# Altium schematic symbol library AUVic_Integrated_Library_Inductors.SchLib: 10 symbols
Pins are listed as number, name and electrical type; pins without a type are passive.

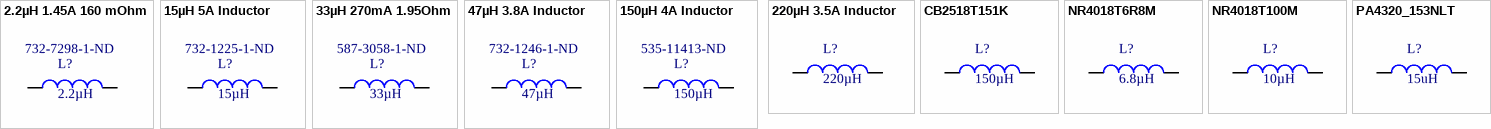
[diagram p0: symbols 2.2µH 1.45A 160 mOhm to PA4320_153NLT]

## 2.2µH 1.45A 160 mOhm
designator L?, comment 2.2µH  Supplier Part Number 1: 732-7298-1-ND
2.2µH 1.45A 160 mOhm; Value: 2.2µH; Created By: Robert Keen; Created On: 2018-07-11; Supplier 1: Digi-Key; ComponentLink1Description: Digikey; ComponentLink1URL: https://www.digikey.ca/product-detail/en/wurth-electronics-inc/744766902/732-7298-1-ND/5353278
footprint INDM4531X34N (Molded Inductor, 2-Leads, Body 4.50x3.10mm, IPC Medium Density)
pins: 1, 2

## 15µH 5A Inductor
designator L?, comment 15µH  Supplier Part Number 1: 732-1225-1-ND
15µH Shielded Wirewound Inductor 5A 27 mOhm Max Nonstandard; Created By: Robert Keen; Created On: 2018-06-13; Value: 15µH; ComponentLink1Description: Digikey; ComponentLink1URL: https://www.digikey.ca/product-detail/en/wurth-electronics-inc/744770115/732-1225-1-ND/1639286; Supplier 1: Digi-Key
footprint WE-PD-XL (SMD Inductor, 2-Leads, Body 12.0 x 12.0 mm)
pins: 1, 2

## 33µH 270mA 1.95Ohm
designator L?, comment 33µH  Supplier Part Number 1: 587-3058-1-ND
33µH 270mA 1.95Ohm; Value: 33µH; Created By: Andy Bates; Created On: 2017-06-05; Supplier 1: Digi-Key
footprint CB - 1007 (2518)
pins: 1, 2

## 47µH 3.8A Inductor
designator L?, comment 47µH  Supplier Part Number 1: 732-1246-1-ND
47µH Shielded Wirewound Inductor 3.8A 60 mOhm Max Nonstandard; Created By: Poorna Chander Kalidas; Created On: 2018-06-13; Value: 47µH; ComponentLink1Description: Digi-Key; ComponentLink1URL: https://www.digikey.ca/product-detail/en/wurth-electronics-inc/7447709470/732-1246-1-ND/1639307; Supplier 1: Digi-Key
footprint 12mm SMD
pins: 1, 2

## 150µH 4A Inductor
designator L?, comment 150µH  Supplier Part Number 1: 535-11413-ND
150µH Unshielded Wirewound Inductor 4A 98 mOhm Max Radial, Vertical Cylinder; Created By: Poorna Chander Kalidas; Created On: 2018-06-13; Value: 150µH; Supplier 1: Digi-Key; ComponentLink1Description: Digi-Key; ComponentLink1URL: https://www.digikey.ca/product-detail/en/abracon-llc/AIRD-02-151K/535-11413-ND/2660673
footprint 21mm Dia Inductor
pins: 1, 2

## 220µH 3.5A Inductor
designator L?, comment 220µH
220µH Unshielded Wirewound Inductor 3.5A 96 mOhm Max Radial; Created By: Poorna Chander Kalidas; Created On: 2018-06-01; Supplier 1: Digi-Key; Supplier Part Number 1: 811-1340-ND; Value: 220µH; ComponentLink1Description: 811-1340-ND; ComponentLink1URL: https://www.digikey.ca/product-detail/en/murata-power-solutions-inc/1422435C/811-1340-ND/1924834
footprint Inductor Cylinder - 1422435C
pins: 1, 2

## CB2518T151K
designator L?, comment 150µH
150µH 210mA 4.6Ohm; Value: 150µH; Supplier 1: Digi-Key; Supplier Part Number 1: 587-3037-6-ND; Created By: Lyden Smith; Created On: 2017-06-05
footprint CB - 1007 (2518)
pins: 1, 2

## NR4018T6R8M
designator L?, comment 6.8µH
6.8uH 1.06A; Supplier 1: Digi-Key; Created By: Lyden Smith; Created On: 2017-06-02; Supplier Part Number 1: 587-2657-1-ND; Value: 6.8µH
footprint NR4018T6R8M Inductor
pins: 1, 2

## NR4018T100M
designator L?, comment 10µH
10uH 840mA; Created By: Lyden Smith; Created On: 2017-06-04; Value: 10µH; Supplier 1: Digi-Key; Supplier Part Number 1: 587-1664-1-ND
footprint NR4018T6R8M Inductor
pins: 1, 2

## PA4320_153NLT
designator L?, comment 15uH
15uH, 7A, 8.3A Sat, +-20%; Created By: Andy Bates; Created On: 2017-06-06; Value: 15uH
footprint PA4320_153NLT
pins: 1, 2